# Altium schematic symbol library KING-LED_RED_K1A2-2.SchLib: 1 symbol
Pins are listed as number, name and electrical type; pins without a type are passive.

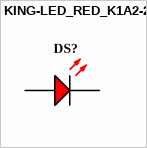
[diagram p0: symbol KING-LED_RED_K1A2-2]

## KING-LED_RED_K1A2-2
designator DS?
pins: 1 K, 2 A